# Altium integrated library Microchip PIC16 Part 1.IntLib: 1800 symbols (part 59 of 93)
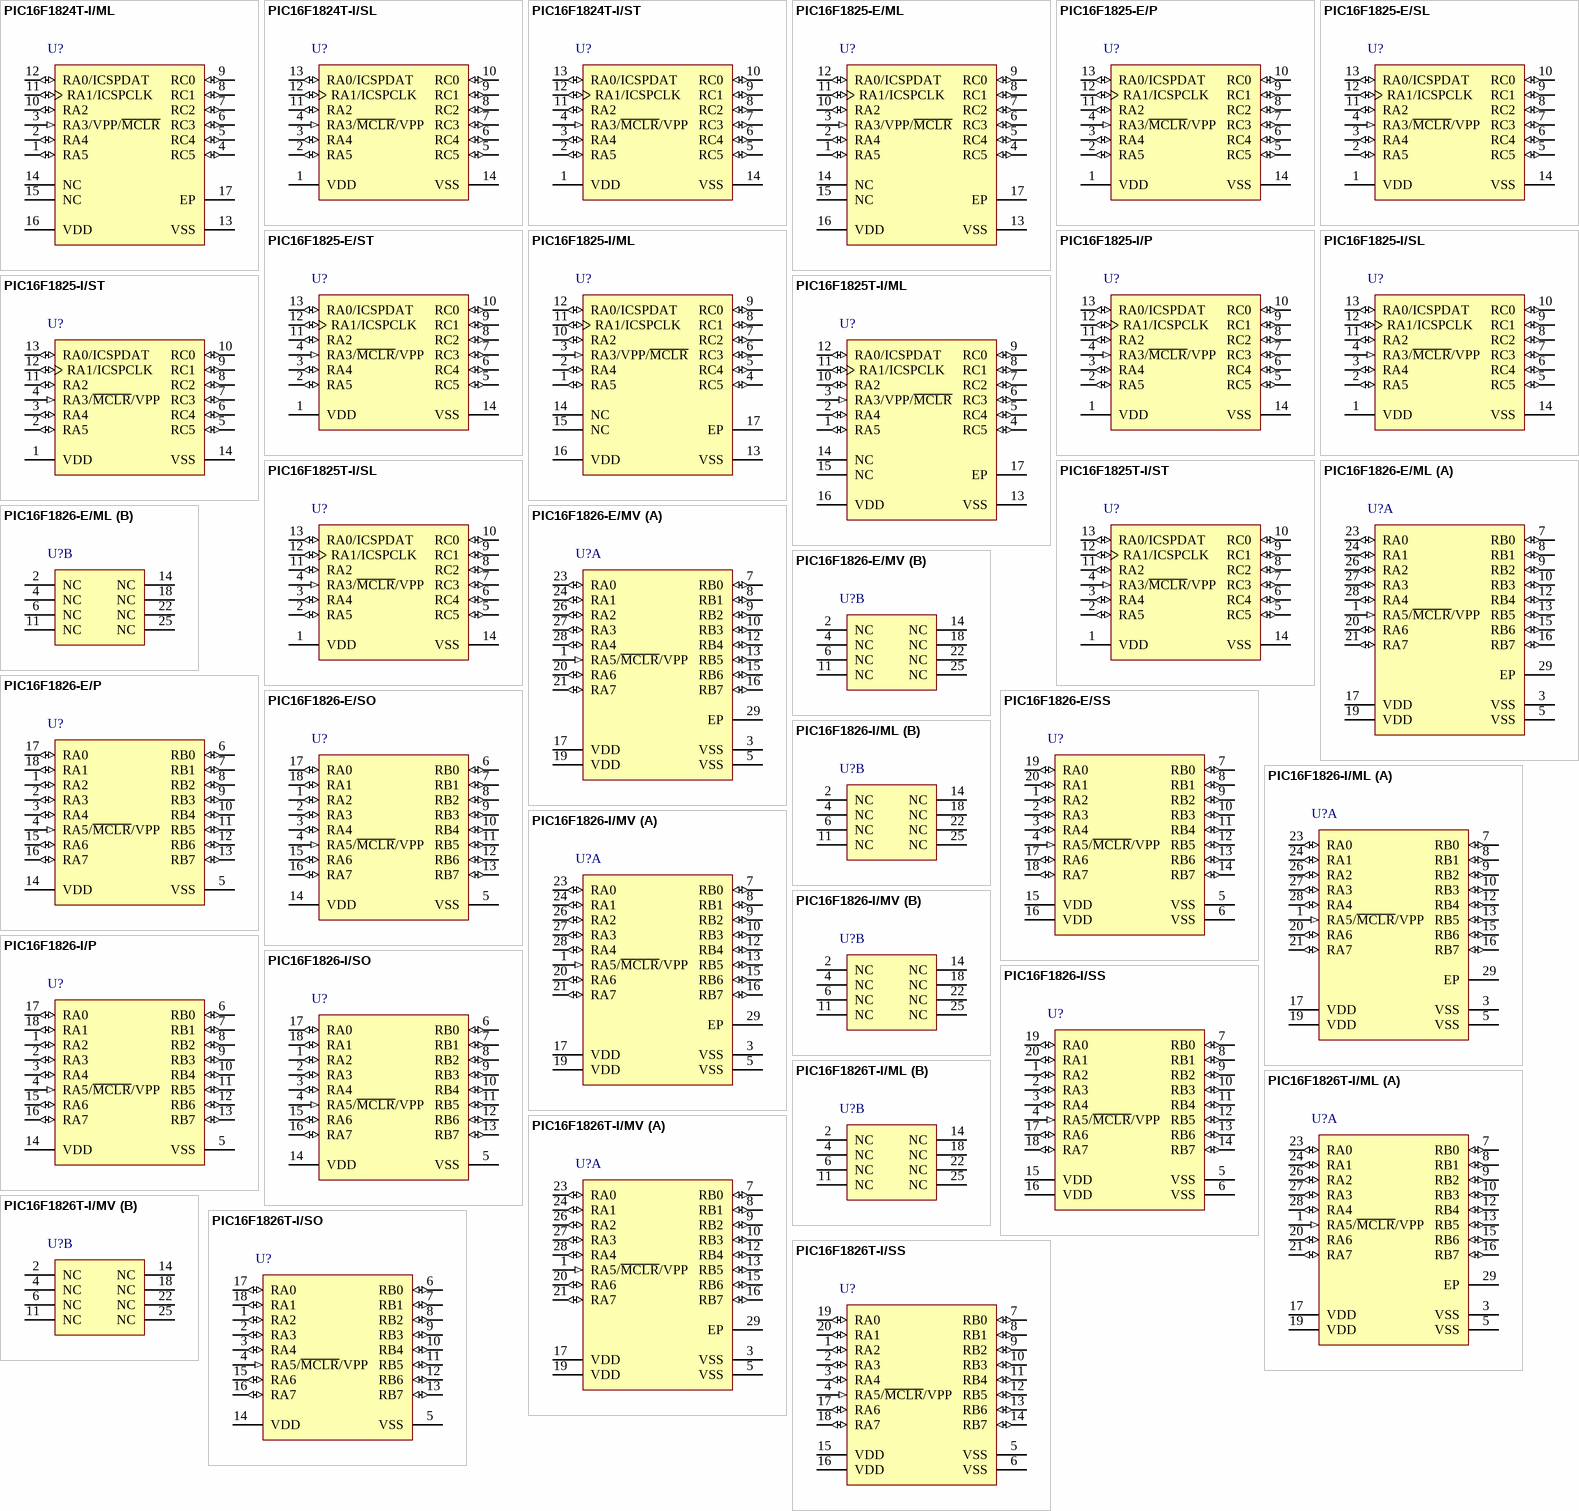
[diagram p157: symbols PIC16F1824T-I/ML to PIC16F1826T-I/SS]

## PIC16F1825-I/ST
designator U?
Flash Microcontroller with XLP Technology, 32 MHz, 11 I/O, -40 to 85 degC, 14-pin TSSOP (ST14), Tube; Manufacturer: Microchip; PartNumber: PIC16F1825-I/ST; # of A/D Channels: 8; Digital Communication: 1 -A/E/USART, 1 -MSSP(SPI/I2C); EEPROM Data Memory (bytes): 256; I/O Pins: 11; Internal Oscillator: 32 MHz, 31 kHz; Max. CPU Speed MHz: 32; Operation Voltage Range: 1.8V - 5.5V; Program Memory KBytes: 14; RAM: 1024; Timers: 4 - 8-bit, 1 - 16-bit; DatasheetVersion: Rev. C; PackageVersion: C04-087C, 12/2012; PackageReference: TSSOP-ST14; PackageDescription: 14-Lead Plastic Thin Shrink Small Outline, 5 x 4.4 mm Body, 0.65 mm Pitch; Supplier 1: Digi-Key; Supplier Part Number 1: PIC16F1825-I/ST-ND; Supplier 2: Farnell; Supplier Part Number 2: 1841449; Supplier 3: Newark; Supplier Part Number 3: 82R4373; Supplier 4: Mouser; Supplier Part Number 4: 579-PIC16F1825-I/ST; Memory Type: Flash; Packing: TUBE; Program Memory KWords: 8; RoHS: TRUE; Mounting Technology: Surface Mount; ComponentLink1Description: Datasheet; ComponentLink1URL: http://ww1.microchip.com/downloads/en/DeviceDoc/41440C.pdf; ComponentLink2Description: Package Specification; ComponentLink2URL: http://www.microchip.com/stellent/groups/techpub_sg/documents/packagingspec/en012702.pdf; ComponentLink3Description: URL Link1; ComponentLink3URL: Product URL:http://www.microchip.com/datasheet/PIC16F1825
footprint MCHP-TSSOP-ST14_N (SOP, 14-Leads, Body 5x4.4mm, Pitch 0.65mm, IPC Medium Density)
footprint MCHP-TSSOP-ST14_L (SOP, 14-Leads, Body 5x4.4mm, Pitch 0.65mm, IPC High Density)
footprint MCHP-TSSOP-ST14_M (SOP, 14-Leads, Body 5x4.4mm, Pitch 0.65mm, IPC Low Density)
pins: 1 VDD (power) "Positive supply", 2 RA5 (io), 3 RA4 (io), 4 RA3/~{MCLR}/VPP (in), 5 RC5 (io), 6 RC4 (io), 7 RC3 (io), 8 RC2 (io), 9 RC1 (io), 10 RC0 (io), 11 RA2 (io), 12 RA1/ICSPCLK (io), 13 RA0/ICSPDAT (io), 14 VSS (power) "Ground reference."

## PIC16F1825T-I/ML
designator U?
Flash Microcontroller with XLP Technology, 32 MHz, 11 I/O, -40 to 85 degC, 16-pin QFN (ML16), Tape and Reel; Manufacturer: Microchip; PartNumber: PIC16F1825T-I/ML; # of A/D Channels: 8; Digital Communication: 1 -A/E/USART, 1 -MSSP(SPI/I2C); EEPROM Data Memory (bytes): 256; I/O Pins: 11; Internal Oscillator: 32 MHz, 31 kHz; Max. CPU Speed MHz: 32; Operation Voltage Range: 1.8V - 5.5V; Packing: T/R; Program Memory KBytes: 14; RAM: 1024; Timers: 4 - 8-bit, 1 - 16-bit; DatasheetVersion: Rev. C; PackageVersion: C04-127B, 04/2013; PackageReference: QFN-ML16; PackageDescription: 16-Lead Plastic Quad Flat No Lead Package, Body 4 x 4 mm, Pitch 0.65 mm; Supplier 1: Digi-Key; Supplier Part Number 1: PIC16F1825T-I/ML-ND; Supplier 2: Newark; Supplier Part Number 2: 82R4374; Supplier 3: Mouser; Supplier Part Number 3: 579-PIC16F1825T-I/ML; Memory Type: Flash; Program Memory KWords: 8; RoHS: TRUE; Mounting Technology: Surface Mount; ComponentLink1Description: Datasheet; ComponentLink1URL: http://ww1.microchip.com/downloads/en/DeviceDoc/41440C.pdf; ComponentLink2Description: Package Specification; ComponentLink2URL: http://www.microchip.com/stellent/groups/techpub_sg/documents/packagingspec/en012702.pdf; ComponentLink3Description: URL Link1; ComponentLink3URL: Product URL:http://www.microchip.com/datasheet/PIC16F1825
footprint MCHP-QFN-ML16_N (QFN, 16-Leads, Body 4x4mm, Pitch 0.65mm, Thermal Pad 2.65x2.65mm, IPC Medium Density)
footprint MCHP-QFN-ML16_L (QFN, 16-Leads, Body 4x4mm, Pitch 0.65mm, Thermal Pad 2.65x2.65mm, IPC High Density)
footprint MCHP-QFN-ML16_M (QFN, 16-Leads, Body 4x4mm, Pitch 0.65mm, Thermal Pad 2.65x2.65mm, IPC Low Density)
pins: 1 RA5 (io), 2 RA4 (io), 3 RA3/VPP/~{MCLR} (in), 4 RC5 (io), 5 RC4 (io), 6 RC3 (io), 7 RC2 (io), 8 RC1 (io), 9 RC0 (io), 10 RA2 (io), 11 RA1/ICSPCLK (io), 12 RA0/ICSPDAT (io), 13 VSS (power) "Ground reference.", 14 NC, 15 NC, 16 VDD (power) "Positive supply.", 17 EP

## PIC16F1825T-I/SL
designator U?
Flash Microcontroller with XLP Technology, 32 MHz, 11 I/O, -40 to 85 degC, 14-pin SOIC (SL14), Tape and Reel; Manufacturer: Microchip; PartNumber: PIC16F1825T-I/SL; # of A/D Channels: 8; Digital Communication: 1 -A/E/USART, 1 -MSSP(SPI/I2C); EEPROM Data Memory (bytes): 256; I/O Pins: 11; Internal Oscillator: 32 MHz, 31 kHz; Max. CPU Speed MHz: 32; Operation Voltage Range: 1.8V - 5.5V; Packing: T/R; Program Memory KBytes: 14; RAM: 1024; Timers: 4 - 8-bit, 1 - 16-bit; DatasheetVersion: Rev. C; PackageVersion: C04-065C, 12/2012; PackageReference: SOIC-SL14; PackageDescription: 14-Lead Plastic Small Outline, 8.65 x 3.9 mm Body, 1.27 mm Pitch; Supplier 1: Digi-Key; Supplier Part Number 1: PIC16F1825T-I/SL-ND; Supplier 2: Mouser; Supplier Part Number 2: 579-PIC16F1825T-I/SL; Memory Type: Flash; Program Memory KWords: 8; RoHS: TRUE; Mounting Technology: Surface Mount; ComponentLink1Description: Datasheet; ComponentLink1URL: http://ww1.microchip.com/downloads/en/DeviceDoc/41440C.pdf; ComponentLink2Description: Package Specification; ComponentLink2URL: http://www.microchip.com/stellent/groups/techpub_sg/documents/packagingspec/en012702.pdf; ComponentLink3Description: URL Link1; ComponentLink3URL: Product URL:http://www.microchip.com/datasheet/PIC16F1825
footprint MCHP-SOIC-SL14_N (SOIC, 14-Leads, Body 8.65x3.9mm, Pitch 1.27mm, IPC Medium Density)
footprint MCHP-SOIC-SL14_L (SOIC, 14-Leads, Body 8.65x3.9mm, Pitch 1.27mm, IPC High Density)
footprint MCHP-SOIC-SL14_M (SOIC, 14-Leads, Body 8.65x3.9mm, Pitch 1.27mm, IPC Low Density)
pins: 1 VDD (power) "Positive supply", 2 RA5 (io), 3 RA4 (io), 4 RA3/~{MCLR}/VPP (in), 5 RC5 (io), 6 RC4 (io), 7 RC3 (io), 8 RC2 (io), 9 RC1 (io), 10 RC0 (io), 11 RA2 (io), 12 RA1/ICSPCLK (io), 13 RA0/ICSPDAT (io), 14 VSS (power) "Ground reference."

## PIC16F1825T-I/ST
designator U?
Flash Microcontroller with XLP Technology, 32 MHz, 11 I/O, -40 to 85 degC, 14-pin TSSOP (ST14), Tape and Reel; Manufacturer: Microchip; PartNumber: PIC16F1825T-I/ST; # of A/D Channels: 8; Digital Communication: 1 -A/E/USART, 1 -MSSP(SPI/I2C); EEPROM Data Memory (bytes): 256; I/O Pins: 11; Internal Oscillator: 32 MHz, 31 kHz; Max. CPU Speed MHz: 32; Operation Voltage Range: 1.8V - 5.5V; Packing: T/R; Program Memory KBytes: 14; RAM: 1024; Timers: 4 - 8-bit, 1 - 16-bit; DatasheetVersion: Rev. C; PackageVersion: C04-087C, 12/2012; PackageReference: TSSOP-ST14; PackageDescription: 14-Lead Plastic Thin Shrink Small Outline, 5 x 4.4 mm Body, 0.65 mm Pitch; Supplier 1: Digi-Key; Supplier Part Number 1: PIC16F1825T-I/ST-ND; Supplier 2: Newark; Supplier Part Number 2: 82R4376; Supplier 3: Mouser; Supplier Part Number 3: 579-PIC16F1825T-I/ST; Memory Type: Flash; Program Memory KWords: 8; RoHS: TRUE; Mounting Technology: Surface Mount; ComponentLink1Description: Datasheet; ComponentLink1URL: http://ww1.microchip.com/downloads/en/DeviceDoc/41440C.pdf; ComponentLink2Description: Package Specification; ComponentLink2URL: http://www.microchip.com/stellent/groups/techpub_sg/documents/packagingspec/en012702.pdf; ComponentLink3Description: URL Link1; ComponentLink3URL: Product URL:http://www.microchip.com/datasheet/PIC16F1825
footprint MCHP-TSSOP-ST14_N (SOP, 14-Leads, Body 5x4.4mm, Pitch 0.65mm, IPC Medium Density)
footprint MCHP-TSSOP-ST14_L (SOP, 14-Leads, Body 5x4.4mm, Pitch 0.65mm, IPC High Density)
footprint MCHP-TSSOP-ST14_M (SOP, 14-Leads, Body 5x4.4mm, Pitch 0.65mm, IPC Low Density)
pins: 1 VDD (power) "Positive supply", 2 RA5 (io), 3 RA4 (io), 4 RA3/~{MCLR}/VPP (in), 5 RC5 (io), 6 RC4 (io), 7 RC3 (io), 8 RC2 (io), 9 RC1 (io), 10 RC0 (io), 11 RA2 (io), 12 RA1/ICSPCLK (io), 13 RA0/ICSPDAT (io), 14 VSS (power) "Ground reference."

## PIC16F1826-E/ML
designator U?
Flash Microcontroller with nanoWatt XLP Technology, 32 MHz, 15 I/O, -40 to 125 degC, 28-pin QFN (ML28), Tube; Manufacturer: Microchip; PartNumber: PIC16F1826-E/ML; # of A/D Channels: 12; Digital Communication: 1 -A/E/USART, 1 -MSSP(SPI/I2C); EEPROM Data Memory (bytes): 256; I/O Pins: 15; Internal Oscillator: 32 MHz, 31 kHz; Max. CPU Speed MHz: 32; Operation Voltage Range: 1.8V - 5.5V; Program Memory KBytes: 3.5; Program Memory KWords: 2; Timers: 2 - 8-bit, 1 - 16-bit; DatasheetVersion: Rev. D; PackageVersion: C04-105C, 12/2012; PackageReference: QFN-ML28; PackageDescription: 28-Lead Plastic Quad Flat, 6 x 6 mm Body, 0.65 mm Pitch; Supplier 1: Digi-Key; Supplier Part Number 1: PIC16F1826-E/ML-ND; Supplier 2: Mouser; Supplier Part Number 2: 579-PIC16F1826-E/ML; Memory Type: Flash; Packing: TUBE; RAM: 256; RoHS: TRUE; Mounting Technology: Surface Mount; ComponentLink1Description: Datasheet; ComponentLink1URL: http://ww1.microchip.com/downloads/en/DeviceDoc/41391D.pdf; ComponentLink2Description: Package Specification; ComponentLink2URL: http://www.microchip.com/stellent/groups/techpub_sg/documents/packagingspec/en012702.pdf; ComponentLink3Description: URL Link1; ComponentLink3URL: Product URL:http://www.microchip.com/datasheet/PIC16F1826
footprint MCHP-QFN-ML28_N (QFN, 28-Leads, Body 6x6mm, Pitch 0.65mm, Thermal Pad 3.7x3.7mm, IPC Medium Density)
footprint MCHP-QFN-ML28_L (QFN, 28-Leads, Body 6x6mm, Pitch 0.65mm, Thermal Pad 3.7x3.7mm, IPC High Density)
footprint MCHP-QFN-ML28_M (QFN, 28-Leads, Body 6x6mm, Pitch 0.65mm, Thermal Pad 3.7x3.7mm, IPC Low Density)
part A pins: 1 RA5/~{MCLR}/VPP (in), 3 VSS (power) "Ground reference", 5 VSS (power) "Ground reference", 7 RB0 (io), 8 RB1 (io), 9 RB2 (io), 10 RB3 (io), 12 RB4 (io), 13 RB5 (io), 15 RB6 (io), 16 RB7 (io), 17 VDD (power) "Positive supply", 19 VDD (power) "Positive supply", 20 RA6 (io), 21 RA7 (io), 23 RA0 (io), 24 RA1 (io), 26 RA2 (io), 27 RA3 (io), 28 RA4 (io), 29 EP
part B pins: 2 NC, 4 NC, 6 NC, 11 NC, 14 NC, 18 NC, 22 NC, 25 NC

## PIC16F1826-E/MV
designator U?
Flash Microcontroller with nanoWatt XLP Technology, 32 MHz, 15 I/O, -40 to 125 degC, 28-pin UQFN (MV28), Tube; Manufacturer: Microchip; PartNumber: PIC16F1826-E/MV; # of A/D Channels: 12; Digital Communication: 1 -A/E/USART, 1 -MSSP(SPI/I2C); EEPROM Data Memory (bytes): 256; I/O Pins: 15; Internal Oscillator: 32 MHz, 31 kHz; Max. CPU Speed MHz: 32; Operation Voltage Range: 1.8V - 5.5V; Program Memory KBytes: 3.5; Program Memory KWords: 2; Timers: 2 - 8-bit, 1 - 16-bit; DatasheetVersion: Rev. D; PackageVersion: C04-152A, 04/2013; PackageReference: UQFN-MV28; PackageDescription: 28-Lead Plastic Ultra Thin Quad Flat, Body 4 x 4 mm, Pitch 0.4 mm; Supplier 1: Digi-Key; Supplier Part Number 1: PIC16F1826-E/MV-ND; Supplier 2: Mouser; Supplier Part Number 2: 579-PIC16F1826-E/MV; Memory Type: Flash; Packing: TUBE; RAM: 256; RoHS: TRUE; Mounting Technology: Surface Mount; ComponentLink1Description: Datasheet; ComponentLink1URL: http://ww1.microchip.com/downloads/en/DeviceDoc/41391D.pdf; ComponentLink2Description: Package Specification; ComponentLink2URL: http://www.microchip.com/stellent/groups/techpub_sg/documents/packagingspec/en012702.pdf; ComponentLink3Description: URL Link1; ComponentLink3URL: Product URL:http://www.microchip.com/datasheet/PIC16F1826
footprint MCHP-UQFN-MV28_N (QFN, 28-Leads, Body 4x4mm, Pitch 0.4mm, Thermal Pad 2.65x2.65mm, IPC Medium Density)
footprint MCHP-UQFN-MV28_L (QFN, 28-Leads, Body 4x4mm, Pitch 0.4mm, Thermal Pad 2.65x2.65mm, IPC High Density)
footprint MCHP-UQFN-MV28_M (QFN, 28-Leads, Body 4x4mm, Pitch 0.4mm, Thermal Pad 2.65x2.65mm, IPC Low Density)
part A pins: 1 RA5/~{MCLR}/VPP (in), 3 VSS (power) "Ground reference", 5 VSS (power) "Ground reference", 7 RB0 (io), 8 RB1 (io), 9 RB2 (io), 10 RB3 (io), 12 RB4 (io), 13 RB5 (io), 15 RB6 (io), 16 RB7 (io), 17 VDD (power) "Positive supply", 19 VDD (power) "Positive supply", 20 RA6 (io), 21 RA7 (io), 23 RA0 (io), 24 RA1 (io), 26 RA2 (io), 27 RA3 (io), 28 RA4 (io), 29 EP
part B pins: 2 NC, 4 NC, 6 NC, 11 NC, 14 NC, 18 NC, 22 NC, 25 NC

## PIC16F1826-E/P
designator U?
Flash Microcontroller with nanoWatt XLP Technology, 32 MHz, 15 I/O, -40 to 125 degC, 18-pin PDIP (P18), Tube; Manufacturer: Microchip; PartNumber: PIC16F1826-E/P; # of A/D Channels: 12; Digital Communication: 1 -A/E/USART, 1 -MSSP(SPI/I2C); EEPROM Data Memory (bytes): 256; I/O Pins: 15; Internal Oscillator: 32 MHz, 31 kHz; Max. CPU Speed MHz: 32; Operation Voltage Range: 1.8V - 5.5V; Program Memory KBytes: 3.5; Program Memory KWords: 2; Timers: 2 - 8-bit, 1 - 16-bit; DatasheetVersion: Rev. D; PackageVersion: C04-007B, 12/2012; PackageReference: PDIP-P18; PackageDescription: 18-Lead Plastic Dual In-Line, Row Spacing 7.62 mm, 22.86 x 6.6 mm Body, 2.54 mm Pitch; Supplier 1: Digi-Key; Supplier Part Number 1: PIC16F1826-E/P-ND; Supplier 2: Farnell; Supplier Part Number 2: 1801210; Supplier 3: Newark; Supplier Part Number 3: 24R7059; Supplier 4: Mouser; Supplier Part Number 4: 579-PIC16F1826-E/P; Memory Type: Flash; Packing: TUBE; RAM: 256; RoHS: TRUE; Mounting Technology: Through Hole; ComponentLink1Description: Datasheet; ComponentLink1URL: http://ww1.microchip.com/downloads/en/DeviceDoc/41391D.pdf; ComponentLink2Description: Package Specification; ComponentLink2URL: http://www.microchip.com/stellent/groups/techpub_sg/documents/packagingspec/en012702.pdf; ComponentLink3Description: URL Link1; ComponentLink3URL: Product URL:http://www.microchip.com/datasheet/PIC16F1826
footprint MCHP-PDIP-P18 (DIP, 18-Leads, Body 22.83x6.604mm, Pitch 2.54mm)
pins: 1 RA2 (io), 2 RA3 (io), 3 RA4 (io), 4 RA5/~{MCLR}/VPP (in), 5 VSS (power) "Ground reference.", 6 RB0 (io), 7 RB1 (io), 8 RB2 (io), 9 RB3 (io), 10 RB4 (io), 11 RB5 (io), 12 RB6 (io), 13 RB7 (io), 14 VDD (power) "Positive supply.", 15 RA6 (io), 16 RA7 (io), 17 RA0 (io), 18 RA1 (io)

## PIC16F1826-E/SO
designator U?
Flash Microcontroller with nanoWatt XLP Technology, 32 MHz, 15 I/O, -40 to 125 degC, 18-pin SOIC (SO18), Tube; Manufacturer: Microchip; PartNumber: PIC16F1826-E/SO; # of A/D Channels: 12; Digital Communication: 1 -A/E/USART, 1 -MSSP(SPI/I2C); EEPROM Data Memory (bytes): 256; I/O Pins: 15; Internal Oscillator: 32 MHz, 31 kHz; Max. CPU Speed MHz: 32; Operation Voltage Range: 1.8V - 5.5V; Program Memory KBytes: 3.5; Program Memory KWords: 2; Timers: 2 - 8-bit, 1 - 16-bit; DatasheetVersion: Rev. D; PackageVersion: C04-051C, 12/2012; PackageReference: SOIC-SO18; PackageDescription: 18-Lead Plastic Small Outline, 7.5 x 11.55 mm Body, 1.27 mm Pitch; Supplier 1: Digi-Key; Supplier Part Number 1: PIC16F1826-E/SO-ND; Supplier 2: Mouser; Supplier Part Number 2: 579-PIC16F1826-E/SO; Memory Type: Flash; Packing: TUBE; RAM: 256; RoHS: TRUE; Mounting Technology: Surface Mount; ComponentLink1Description: Datasheet; ComponentLink1URL: http://ww1.microchip.com/downloads/en/DeviceDoc/41391D.pdf; ComponentLink2Description: Package Specification; ComponentLink2URL: http://www.microchip.com/stellent/groups/techpub_sg/documents/packagingspec/en012702.pdf; ComponentLink3Description: URL Link1; ComponentLink3URL: Product URL:http://www.microchip.com/datasheet/PIC16F1826
footprint MCHP-SOIC-SO18_N (SOIC, 18-Leads, Body 11.55x7.5mm, Pitch 1.27mm, IPC Medium Density)
footprint MCHP-SOIC-SO18_L (SOIC, 18-Leads, Body 11.55x7.5mm, Pitch 1.27mm, IPC High Density)
footprint MCHP-SOIC-SO18_M (SOIC, 18-Leads, Body 11.55x7.5mm, Pitch 1.27mm, IPC Low Density)
pins: 1 RA2 (io), 2 RA3 (io), 3 RA4 (io), 4 RA5/~{MCLR}/VPP (in), 5 VSS (power) "Ground reference.", 6 RB0 (io), 7 RB1 (io), 8 RB2 (io), 9 RB3 (io), 10 RB4 (io), 11 RB5 (io), 12 RB6 (io), 13 RB7 (io), 14 VDD (power) "Positive supply.", 15 RA6 (io), 16 RA7 (io), 17 RA0 (io), 18 RA1 (io)

## PIC16F1826-E/SS
designator U?
Flash Microcontroller with nanoWatt XLP Technology, 32 MHz, 15 I/O, -40 to 125 degC, 20-pin SSOP (SS20), Tube; Manufacturer: Microchip; PartNumber: PIC16F1826-E/SS; # of A/D Channels: 12; Digital Communication: 1 -A/E/USART, 1 -MSSP(SPI/I2C); EEPROM Data Memory (bytes): 256; I/O Pins: 15; Internal Oscillator: 32 MHz, 31 kHz; Max. CPU Speed MHz: 32; Operation Voltage Range: 1.8V - 5.5V; Program Memory KBytes: 3.5; Program Memory KWords: 2; Timers: 2 - 8-bit, 1 - 16-bit; DatasheetVersion: Rev. D; PackageVersion: C04-072B, 12/2012; PackageReference: SSOP-SS20; PackageDescription: 20-Lead Plastic Shrink Small Outline, 5.3 x 7.2 mm Body, 0.65 mm Pitch; Supplier 1: Digi-Key; Supplier Part Number 1: PIC16F1826-E/SS-ND; Supplier 2: Mouser; Supplier Part Number 2: 579-PIC16F1826-E/SS; Memory Type: Flash; Packing: TUBE; RAM: 256; RoHS: TRUE; Mounting Technology: Surface Mount; ComponentLink1Description: Datasheet; ComponentLink1URL: http://ww1.microchip.com/downloads/en/DeviceDoc/41391D.pdf; ComponentLink2Description: Package Specification; ComponentLink2URL: http://www.microchip.com/stellent/groups/techpub_sg/documents/packagingspec/en012702.pdf; ComponentLink3Description: URL Link1; ComponentLink3URL: Product URL:http://www.microchip.com/datasheet/PIC16F1826
footprint MCHP-SSOP-SS20_N (SOP, 20-Leads, Body 7.2x5.3mm, Pitch 0.65mm, IPC Medium Density)
footprint MCHP-SSOP-SS20_L (SOP, 20-Leads, Body 7.2x5.3mm, Pitch 0.65mm, IPC High Density)
footprint MCHP-SSOP-SS20_M (SOP, 20-Leads, Body 7.2x5.3mm, Pitch 0.65mm, IPC Low Density)
pins: 1 RA2 (io), 2 RA3 (io), 3 RA4 (io), 4 RA5/~{MCLR}/VPP (in), 5 VSS (power) "Ground reference", 6 VSS (power) "Ground reference", 7 RB0 (io), 8 RB1 (io), 9 RB2 (io), 10 RB3 (io), 11 RB4 (io), 12 RB5 (io), 13 RB6 (io), 14 RB7 (io), 15 VDD (power) "Positive supply", 16 VDD (power) "Positive supply", 17 RA6 (io), 18 RA7 (io), 19 RA0 (io), 20 RA1 (io)

## PIC16F1826-I/ML
designator U?
Flash Microcontroller with nanoWatt XLP Technology, 32 MHz, 15 I/O, -40 to 85 degC, 28-pin QFN (ML28), Tube; Manufacturer: Microchip; PartNumber: PIC16F1826-I/ML; # of A/D Channels: 12; Digital Communication: 1 -A/E/USART, 1 -MSSP(SPI/I2C); EEPROM Data Memory (bytes): 256; I/O Pins: 15; Internal Oscillator: 32 MHz, 31 kHz; Max. CPU Speed MHz: 32; Operation Voltage Range: 1.8V - 5.5V; Program Memory KBytes: 3.5; Program Memory KWords: 2; Timers: 2 - 8-bit, 1 - 16-bit; DatasheetVersion: Rev. D; PackageVersion: C04-105C, 12/2012; PackageReference: QFN-ML28; PackageDescription: 28-Lead Plastic Quad Flat, 6 x 6 mm Body, 0.65 mm Pitch; Supplier 1: Digi-Key; Supplier Part Number 1: PIC16F1826-I/ML-ND; Supplier 2: Farnell; Supplier Part Number 2: 1778439; Supplier 3: Newark; Supplier Part Number 3: 24R7062; Supplier 4: Newark; Supplier Part Number 4: 52R6162; Supplier 5: Mouser; Supplier Part Number 5: 579-PIC16F1826-I/ML; Memory Type: Flash; Packing: TUBE; RAM: 256; RoHS: TRUE; Mounting Technology: Surface Mount; ComponentLink1Description: Datasheet; ComponentLink1URL: http://ww1.microchip.com/downloads/en/DeviceDoc/41391D.pdf; ComponentLink2Description: Package Specification; ComponentLink2URL: http://www.microchip.com/stellent/groups/techpub_sg/documents/packagingspec/en012702.pdf; ComponentLink3Description: URL Link1; ComponentLink3URL: Product URL:http://www.microchip.com/datasheet/PIC16F1826
footprint MCHP-QFN-ML28_N (QFN, 28-Leads, Body 6x6mm, Pitch 0.65mm, Thermal Pad 3.7x3.7mm, IPC Medium Density)
footprint MCHP-QFN-ML28_L (QFN, 28-Leads, Body 6x6mm, Pitch 0.65mm, Thermal Pad 3.7x3.7mm, IPC High Density)
footprint MCHP-QFN-ML28_M (QFN, 28-Leads, Body 6x6mm, Pitch 0.65mm, Thermal Pad 3.7x3.7mm, IPC Low Density)
part A pins: 1 RA5/~{MCLR}/VPP (in), 3 VSS (power) "Ground reference", 5 VSS (power) "Ground reference", 7 RB0 (io), 8 RB1 (io), 9 RB2 (io), 10 RB3 (io), 12 RB4 (io), 13 RB5 (io), 15 RB6 (io), 16 RB7 (io), 17 VDD (power) "Positive supply", 19 VDD (power) "Positive supply", 20 RA6 (io), 21 RA7 (io), 23 RA0 (io), 24 RA1 (io), 26 RA2 (io), 27 RA3 (io), 28 RA4 (io), 29 EP
part B pins: 2 NC, 4 NC, 6 NC, 11 NC, 14 NC, 18 NC, 22 NC, 25 NC

## PIC16F1826-I/MV
designator U?
Flash Microcontroller with nanoWatt XLP Technology, 32 MHz, 15 I/O, -40 to 85 degC, 28-pin UQFN (MV28), Tube; Manufacturer: Microchip; PartNumber: PIC16F1826-I/MV; # of A/D Channels: 12; Digital Communication: 1 -A/E/USART, 1 -MSSP(SPI/I2C); EEPROM Data Memory (bytes): 256; I/O Pins: 15; Internal Oscillator: 32 MHz, 31 kHz; Max. CPU Speed MHz: 32; Operation Voltage Range: 1.8V - 5.5V; Program Memory KBytes: 3.5; Program Memory KWords: 2; Timers: 2 - 8-bit, 1 - 16-bit; DatasheetVersion: Rev. D; PackageVersion: C04-152A, 04/2013; PackageReference: UQFN-MV28; PackageDescription: 28-Lead Plastic Ultra Thin Quad Flat, Body 4 x 4 mm, Pitch 0.4 mm; Supplier 1: Digi-Key; Supplier Part Number 1: PIC16F1826-I/MV-ND; Supplier 2: Farnell; Supplier Part Number 2: 1778441; Supplier 3: Newark; Supplier Part Number 3: 53R0228; Supplier 4: Mouser; Supplier Part Number 4: 579-PIC16F1826-I/MV; Memory Type: Flash; Packing: TUBE; RAM: 256; RoHS: TRUE; Mounting Technology: Surface Mount; ComponentLink1Description: Datasheet; ComponentLink1URL: http://ww1.microchip.com/downloads/en/DeviceDoc/41391D.pdf; ComponentLink2Description: Package Specification; ComponentLink2URL: http://www.microchip.com/stellent/groups/techpub_sg/documents/packagingspec/en012702.pdf; ComponentLink3Description: URL Link1; ComponentLink3URL: Product URL:http://www.microchip.com/datasheet/PIC16F1826
footprint MCHP-UQFN-MV28_N (QFN, 28-Leads, Body 4x4mm, Pitch 0.4mm, Thermal Pad 2.65x2.65mm, IPC Medium Density)
footprint MCHP-UQFN-MV28_L (QFN, 28-Leads, Body 4x4mm, Pitch 0.4mm, Thermal Pad 2.65x2.65mm, IPC High Density)
footprint MCHP-UQFN-MV28_M (QFN, 28-Leads, Body 4x4mm, Pitch 0.4mm, Thermal Pad 2.65x2.65mm, IPC Low Density)
part A pins: 1 RA5/~{MCLR}/VPP (in), 3 VSS (power) "Ground reference", 5 VSS (power) "Ground reference", 7 RB0 (io), 8 RB1 (io), 9 RB2 (io), 10 RB3 (io), 12 RB4 (io), 13 RB5 (io), 15 RB6 (io), 16 RB7 (io), 17 VDD (power) "Positive supply", 19 VDD (power) "Positive supply", 20 RA6 (io), 21 RA7 (io), 23 RA0 (io), 24 RA1 (io), 26 RA2 (io), 27 RA3 (io), 28 RA4 (io), 29 EP
part B pins: 2 NC, 4 NC, 6 NC, 11 NC, 14 NC, 18 NC, 22 NC, 25 NC

## PIC16F1826-I/P
designator U?
Flash Microcontroller with nanoWatt XLP Technology, 32 MHz, 15 I/O, -40 to 85 degC, 18-pin PDIP (P18), Tube; Manufacturer: Microchip; PartNumber: PIC16F1826-I/P; # of A/D Channels: 12; Digital Communication: 1 -A/E/USART, 1 -MSSP(SPI/I2C); EEPROM Data Memory (bytes): 256; I/O Pins: 15; Internal Oscillator: 32 MHz, 31 kHz; Max. CPU Speed MHz: 32; Operation Voltage Range: 1.8V - 5.5V; Program Memory KBytes: 3.5; Program Memory KWords: 2; Timers: 2 - 8-bit, 1 - 16-bit; DatasheetVersion: Rev. D; PackageVersion: C04-007B, 12/2012; PackageReference: PDIP-P18; PackageDescription: 18-Lead Plastic Dual In-Line, Row Spacing 7.62 mm, 22.86 x 6.6 mm Body, 2.54 mm Pitch; Supplier 1: Digi-Key; Supplier Part Number 1: PIC16F1826-I/P-ND; Supplier 2: Farnell; Supplier Part Number 2: 1778442; Supplier 3: Newark; Supplier Part Number 3: 24R7064; Supplier 4: Mouser; Supplier Part Number 4: 579-PIC16F1826-I/P; Memory Type: Flash; Packing: TUBE; RAM: 256; RoHS: TRUE; Mounting Technology: Through Hole; ComponentLink1Description: Datasheet; ComponentLink1URL: http://ww1.microchip.com/downloads/en/DeviceDoc/41391D.pdf; ComponentLink2Description: Package Specification; ComponentLink2URL: http://www.microchip.com/stellent/groups/techpub_sg/documents/packagingspec/en012702.pdf; ComponentLink3Description: URL Link1; ComponentLink3URL: Product URL:http://www.microchip.com/datasheet/PIC16F1826
footprint MCHP-PDIP-P18 (DIP, 18-Leads, Body 22.83x6.604mm, Pitch 2.54mm)
pins: 1 RA2 (io), 2 RA3 (io), 3 RA4 (io), 4 RA5/~{MCLR}/VPP (in), 5 VSS (power) "Ground reference.", 6 RB0 (io), 7 RB1 (io), 8 RB2 (io), 9 RB3 (io), 10 RB4 (io), 11 RB5 (io), 12 RB6 (io), 13 RB7 (io), 14 VDD (power) "Positive supply.", 15 RA6 (io), 16 RA7 (io), 17 RA0 (io), 18 RA1 (io)

## PIC16F1826-I/SO
designator U?
Flash Microcontroller with nanoWatt XLP Technology, 32 MHz, 15 I/O, -40 to 85 degC, 18-pin SOIC (SO18), Tube; Manufacturer: Microchip; PartNumber: PIC16F1826-I/SO; # of A/D Channels: 12; Digital Communication: 1 -A/E/USART, 1 -MSSP(SPI/I2C); EEPROM Data Memory (bytes): 256; I/O Pins: 15; Internal Oscillator: 32 MHz, 31 kHz; Max. CPU Speed MHz: 32; Operation Voltage Range: 1.8V - 5.5V; Program Memory KBytes: 3.5; Program Memory KWords: 2; Timers: 2 - 8-bit, 1 - 16-bit; DatasheetVersion: Rev. D; PackageVersion: C04-051C, 12/2012; PackageReference: SOIC-SO18; PackageDescription: 18-Lead Plastic Small Outline, 7.5 x 11.55 mm Body, 1.27 mm Pitch; Supplier 1: Digi-Key; Supplier Part Number 1: PIC16F1826-I/SO-ND; Supplier 2: Farnell; Supplier Part Number 2: 1778443; Supplier 3: Newark; Supplier Part Number 3: 24R7065; Supplier 4: Mouser; Supplier Part Number 4: 579-PIC16F1826-I/SO; Memory Type: Flash; Packing: TUBE; RAM: 256; RoHS: TRUE; Mounting Technology: Surface Mount; ComponentLink1Description: Datasheet; ComponentLink1URL: http://ww1.microchip.com/downloads/en/DeviceDoc/41391D.pdf; ComponentLink2Description: Package Specification; ComponentLink2URL: http://www.microchip.com/stellent/groups/techpub_sg/documents/packagingspec/en012702.pdf; ComponentLink3Description: URL Link1; ComponentLink3URL: Product URL:http://www.microchip.com/datasheet/PIC16F1826
footprint MCHP-SOIC-SO18_N (SOIC, 18-Leads, Body 11.55x7.5mm, Pitch 1.27mm, IPC Medium Density)
footprint MCHP-SOIC-SO18_L (SOIC, 18-Leads, Body 11.55x7.5mm, Pitch 1.27mm, IPC High Density)
footprint MCHP-SOIC-SO18_M (SOIC, 18-Leads, Body 11.55x7.5mm, Pitch 1.27mm, IPC Low Density)
pins: 1 RA2 (io), 2 RA3 (io), 3 RA4 (io), 4 RA5/~{MCLR}/VPP (in), 5 VSS (power) "Ground reference.", 6 RB0 (io), 7 RB1 (io), 8 RB2 (io), 9 RB3 (io), 10 RB4 (io), 11 RB5 (io), 12 RB6 (io), 13 RB7 (io), 14 VDD (power) "Positive supply.", 15 RA6 (io), 16 RA7 (io), 17 RA0 (io), 18 RA1 (io)

## PIC16F1826-I/SS
designator U?
Flash Microcontroller with nanoWatt XLP Technology, 32 MHz, 15 I/O, -40 to 85 degC, 20-pin SSOP (SS20), Tube; Manufacturer: Microchip; PartNumber: PIC16F1826-I/SS; # of A/D Channels: 12; Digital Communication: 1 -A/E/USART, 1 -MSSP(SPI/I2C); EEPROM Data Memory (bytes): 256; I/O Pins: 15; Internal Oscillator: 32 MHz, 31 kHz; Max. CPU Speed MHz: 32; Operation Voltage Range: 1.8V - 5.5V; Program Memory KBytes: 3.5; Program Memory KWords: 2; Timers: 2 - 8-bit, 1 - 16-bit; DatasheetVersion: Rev. D; PackageVersion: C04-072B, 12/2012; PackageReference: SSOP-SS20; PackageDescription: 20-Lead Plastic Shrink Small Outline, 5.3 x 7.2 mm Body, 0.65 mm Pitch; Supplier 1: Digi-Key; Supplier Part Number 1: PIC16F1826-I/SS-ND; Supplier 2: Farnell; Supplier Part Number 2: 1778445; Supplier 3: Newark; Supplier Part Number 3: 24R7066; Supplier 4: Mouser; Supplier Part Number 4: 579-PIC16F1826-I/SS; Memory Type: Flash; Packing: TUBE; RAM: 256; RoHS: TRUE; Mounting Technology: Surface Mount; ComponentLink1Description: Datasheet; ComponentLink1URL: http://ww1.microchip.com/downloads/en/DeviceDoc/41391D.pdf; ComponentLink2Description: Package Specification; ComponentLink2URL: http://www.microchip.com/stellent/groups/techpub_sg/documents/packagingspec/en012702.pdf; ComponentLink3Description: URL Link1; ComponentLink3URL: Product URL:http://www.microchip.com/datasheet/PIC16F1826
footprint MCHP-SSOP-SS20_N (SOP, 20-Leads, Body 7.2x5.3mm, Pitch 0.65mm, IPC Medium Density)
footprint MCHP-SSOP-SS20_L (SOP, 20-Leads, Body 7.2x5.3mm, Pitch 0.65mm, IPC High Density)
footprint MCHP-SSOP-SS20_M (SOP, 20-Leads, Body 7.2x5.3mm, Pitch 0.65mm, IPC Low Density)
pins: 1 RA2 (io), 2 RA3 (io), 3 RA4 (io), 4 RA5/~{MCLR}/VPP (in), 5 VSS (power) "Ground reference", 6 VSS (power) "Ground reference", 7 RB0 (io), 8 RB1 (io), 9 RB2 (io), 10 RB3 (io), 11 RB4 (io), 12 RB5 (io), 13 RB6 (io), 14 RB7 (io), 15 VDD (power) "Positive supply", 16 VDD (power) "Positive supply", 17 RA6 (io), 18 RA7 (io), 19 RA0 (io), 20 RA1 (io)

## PIC16F1826T-I/ML
designator U?
Flash Microcontroller with nanoWatt XLP Technology, 32 MHz, 15 I/O, -40 to 85 degC, 28-pin QFN (ML28), Tape and Reel; Manufacturer: Microchip; PartNumber: PIC16F1826T-I/ML; # of A/D Channels: 12; Digital Communication: 1 -A/E/USART, 1 -MSSP(SPI/I2C); EEPROM Data Memory (bytes): 256; I/O Pins: 15; Internal Oscillator: 32 MHz, 31 kHz; Max. CPU Speed MHz: 32; Operation Voltage Range: 1.8V - 5.5V; Packing: T/R; Program Memory KBytes: 3.5; Program Memory KWords: 2; Timers: 2 - 8-bit, 1 - 16-bit; DatasheetVersion: Rev. D; PackageVersion: C04-105C, 12/2012; PackageReference: QFN-ML28; PackageDescription: 28-Lead Plastic Quad Flat, 6 x 6 mm Body, 0.65 mm Pitch; Supplier 1: Digi-Key; Supplier Part Number 1: PIC16F1826T-I/ML-ND; Supplier 2: Newark; Supplier Part Number 2: 24R7067; Supplier 3: Mouser; Supplier Part Number 3: 579-PIC16F1826T-I/ML; Memory Type: Flash; RAM: 256; RoHS: TRUE; Mounting Technology: Surface Mount; ComponentLink1Description: Datasheet; ComponentLink1URL: http://ww1.microchip.com/downloads/en/DeviceDoc/41391D.pdf; ComponentLink2Description: Package Specification; ComponentLink2URL: http://www.microchip.com/stellent/groups/techpub_sg/documents/packagingspec/en012702.pdf; ComponentLink3Description: URL Link1; ComponentLink3URL: Product URL:http://www.microchip.com/datasheet/PIC16F1826
footprint MCHP-QFN-ML28_N (QFN, 28-Leads, Body 6x6mm, Pitch 0.65mm, Thermal Pad 3.7x3.7mm, IPC Medium Density)
footprint MCHP-QFN-ML28_L (QFN, 28-Leads, Body 6x6mm, Pitch 0.65mm, Thermal Pad 3.7x3.7mm, IPC High Density)
footprint MCHP-QFN-ML28_M (QFN, 28-Leads, Body 6x6mm, Pitch 0.65mm, Thermal Pad 3.7x3.7mm, IPC Low Density)
part A pins: 1 RA5/~{MCLR}/VPP (in), 3 VSS (power) "Ground reference", 5 VSS (power) "Ground reference", 7 RB0 (io), 8 RB1 (io), 9 RB2 (io), 10 RB3 (io), 12 RB4 (io), 13 RB5 (io), 15 RB6 (io), 16 RB7 (io), 17 VDD (power) "Positive supply", 19 VDD (power) "Positive supply", 20 RA6 (io), 21 RA7 (io), 23 RA0 (io), 24 RA1 (io), 26 RA2 (io), 27 RA3 (io), 28 RA4 (io), 29 EP
part B pins: 2 NC, 4 NC, 6 NC, 11 NC, 14 NC, 18 NC, 22 NC, 25 NC

## PIC16F1826T-I/MV
designator U?
Flash Microcontroller with nanoWatt XLP Technology, 32 MHz, 15 I/O, -40 to 85 degC, 28-pin UQFN (MV28), Tape and Reel; Manufacturer: Microchip; PartNumber: PIC16F1826T-I/MV; # of A/D Channels: 12; Digital Communication: 1 -A/E/USART, 1 -MSSP(SPI/I2C); EEPROM Data Memory (bytes): 256; I/O Pins: 15; Internal Oscillator: 32 MHz, 31 kHz; Max. CPU Speed MHz: 32; Operation Voltage Range: 1.8V - 5.5V; Packing: T/R; Program Memory KBytes: 3.5; Program Memory KWords: 2; Timers: 2 - 8-bit, 1 - 16-bit; DatasheetVersion: Rev. D; PackageVersion: C04-152A, 04/2013; PackageReference: UQFN-MV28; PackageDescription: 28-Lead Plastic Ultra Thin Quad Flat, Body 4 x 4 mm, Pitch 0.4 mm; Supplier 1: Digi-Key; Supplier Part Number 1: PIC16F1826T-I/MV-ND; Supplier 2: Mouser; Supplier Part Number 2: 579-PIC16F1826T-I/MV; Memory Type: Flash; RAM: 256; RoHS: TRUE; Mounting Technology: Surface Mount; ComponentLink1Description: Datasheet; ComponentLink1URL: http://ww1.microchip.com/downloads/en/DeviceDoc/41391D.pdf; ComponentLink2Description: Package Specification; ComponentLink2URL: http://www.microchip.com/stellent/groups/techpub_sg/documents/packagingspec/en012702.pdf; ComponentLink3Description: URL Link1; ComponentLink3URL: Product URL:http://www.microchip.com/datasheet/PIC16F1826
footprint MCHP-UQFN-MV28_N (QFN, 28-Leads, Body 4x4mm, Pitch 0.4mm, Thermal Pad 2.65x2.65mm, IPC Medium Density)
footprint MCHP-UQFN-MV28_L (QFN, 28-Leads, Body 4x4mm, Pitch 0.4mm, Thermal Pad 2.65x2.65mm, IPC High Density)
footprint MCHP-UQFN-MV28_M (QFN, 28-Leads, Body 4x4mm, Pitch 0.4mm, Thermal Pad 2.65x2.65mm, IPC Low Density)
part A pins: 1 RA5/~{MCLR}/VPP (in), 3 VSS (power) "Ground reference", 5 VSS (power) "Ground reference", 7 RB0 (io), 8 RB1 (io), 9 RB2 (io), 10 RB3 (io), 12 RB4 (io), 13 RB5 (io), 15 RB6 (io), 16 RB7 (io), 17 VDD (power) "Positive supply", 19 VDD (power) "Positive supply", 20 RA6 (io), 21 RA7 (io), 23 RA0 (io), 24 RA1 (io), 26 RA2 (io), 27 RA3 (io), 28 RA4 (io), 29 EP
part B pins: 2 NC, 4 NC, 6 NC, 11 NC, 14 NC, 18 NC, 22 NC, 25 NC

## PIC16F1826T-I/SO
designator U?
Flash Microcontroller with nanoWatt XLP Technology, 32 MHz, 15 I/O, -40 to 85 degC, 18-pin SOIC (SO18), Tape and Reel; Manufacturer: Microchip; PartNumber: PIC16F1826T-I/SO; # of A/D Channels: 12; Digital Communication: 1 -A/E/USART, 1 -MSSP(SPI/I2C); EEPROM Data Memory (bytes): 256; I/O Pins: 15; Internal Oscillator: 32 MHz, 31 kHz; Max. CPU Speed MHz: 32; Operation Voltage Range: 1.8V - 5.5V; Packing: T/R; Program Memory KBytes: 3.5; Program Memory KWords: 2; Timers: 2 - 8-bit, 1 - 16-bit; DatasheetVersion: Rev. D; PackageVersion: C04-051C, 12/2012; PackageReference: SOIC-SO18; PackageDescription: 18-Lead Plastic Small Outline, 7.5 x 11.55 mm Body, 1.27 mm Pitch; Supplier 1: Digi-Key; Supplier Part Number 1: PIC16F1826T-I/SO-ND; Supplier 2: Newark; Supplier Part Number 2: 24R7069; Supplier 3: Mouser; Supplier Part Number 3: 579-PIC16F1826T-I/SO; Memory Type: Flash; RAM: 256; RoHS: TRUE; Mounting Technology: Surface Mount; ComponentLink1Description: Datasheet; ComponentLink1URL: http://ww1.microchip.com/downloads/en/DeviceDoc/41391D.pdf; ComponentLink2Description: Package Specification; ComponentLink2URL: http://www.microchip.com/stellent/groups/techpub_sg/documents/packagingspec/en012702.pdf; ComponentLink3Description: URL Link1; ComponentLink3URL: Product URL:http://www.microchip.com/datasheet/PIC16F1826
footprint MCHP-SOIC-SO18_N (SOIC, 18-Leads, Body 11.55x7.5mm, Pitch 1.27mm, IPC Medium Density)
footprint MCHP-SOIC-SO18_L (SOIC, 18-Leads, Body 11.55x7.5mm, Pitch 1.27mm, IPC High Density)
footprint MCHP-SOIC-SO18_M (SOIC, 18-Leads, Body 11.55x7.5mm, Pitch 1.27mm, IPC Low Density)
pins: 1 RA2 (io), 2 RA3 (io), 3 RA4 (io), 4 RA5/~{MCLR}/VPP (in), 5 VSS (power) "Ground reference.", 6 RB0 (io), 7 RB1 (io), 8 RB2 (io), 9 RB3 (io), 10 RB4 (io), 11 RB5 (io), 12 RB6 (io), 13 RB7 (io), 14 VDD (power) "Positive supply.", 15 RA6 (io), 16 RA7 (io), 17 RA0 (io), 18 RA1 (io)

## PIC16F1826T-I/SS
designator U?
Flash Microcontroller with nanoWatt XLP Technology, 32 MHz, 15 I/O, -40 to 85 degC, 20-pin SSOP (SS20), Tape and Reel; Manufacturer: Microchip; PartNumber: PIC16F1826T-I/SS; # of A/D Channels: 12; Digital Communication: 1 -A/E/USART, 1 -MSSP(SPI/I2C); EEPROM Data Memory (bytes): 256; I/O Pins: 15; Internal Oscillator: 32 MHz, 31 kHz; Max. CPU Speed MHz: 32; Operation Voltage Range: 1.8V - 5.5V; Packing: T/R; Program Memory KBytes: 3.5; Program Memory KWords: 2; Timers: 2 - 8-bit, 1 - 16-bit; DatasheetVersion: Rev. D; PackageVersion: C04-072B, 12/2012; PackageReference: SSOP-SS20; PackageDescription: 20-Lead Plastic Shrink Small Outline, 5.3 x 7.2 mm Body, 0.65 mm Pitch; Supplier 1: Digi-Key; Supplier Part Number 1: PIC16F1826T-I/SS-ND; Supplier 2: Mouser; Supplier Part Number 2: 579-PIC16F1826T-I/SS; Memory Type: Flash; RAM: 256; RoHS: TRUE; Mounting Technology: Surface Mount; ComponentLink1Description: Datasheet; ComponentLink1URL: http://ww1.microchip.com/downloads/en/DeviceDoc/41391D.pdf; ComponentLink2Description: Package Specification; ComponentLink2URL: http://www.microchip.com/stellent/groups/techpub_sg/documents/packagingspec/en012702.pdf; ComponentLink3Description: URL Link1; ComponentLink3URL: Product URL:http://www.microchip.com/datasheet/PIC16F1826
footprint MCHP-SSOP-SS20_N (SOP, 20-Leads, Body 7.2x5.3mm, Pitch 0.65mm, IPC Medium Density)
footprint MCHP-SSOP-SS20_L (SOP, 20-Leads, Body 7.2x5.3mm, Pitch 0.65mm, IPC High Density)
footprint MCHP-SSOP-SS20_M (SOP, 20-Leads, Body 7.2x5.3mm, Pitch 0.65mm, IPC Low Density)
pins: 1 RA2 (io), 2 RA3 (io), 3 RA4 (io), 4 RA5/~{MCLR}/VPP (in), 5 VSS (power) "Ground reference", 6 VSS (power) "Ground reference", 7 RB0 (io), 8 RB1 (io), 9 RB2 (io), 10 RB3 (io), 11 RB4 (io), 12 RB5 (io), 13 RB6 (io), 14 RB7 (io), 15 VDD (power) "Positive supply", 16 VDD (power) "Positive supply", 17 RA6 (io), 18 RA7 (io), 19 RA0 (io), 20 RA1 (io)

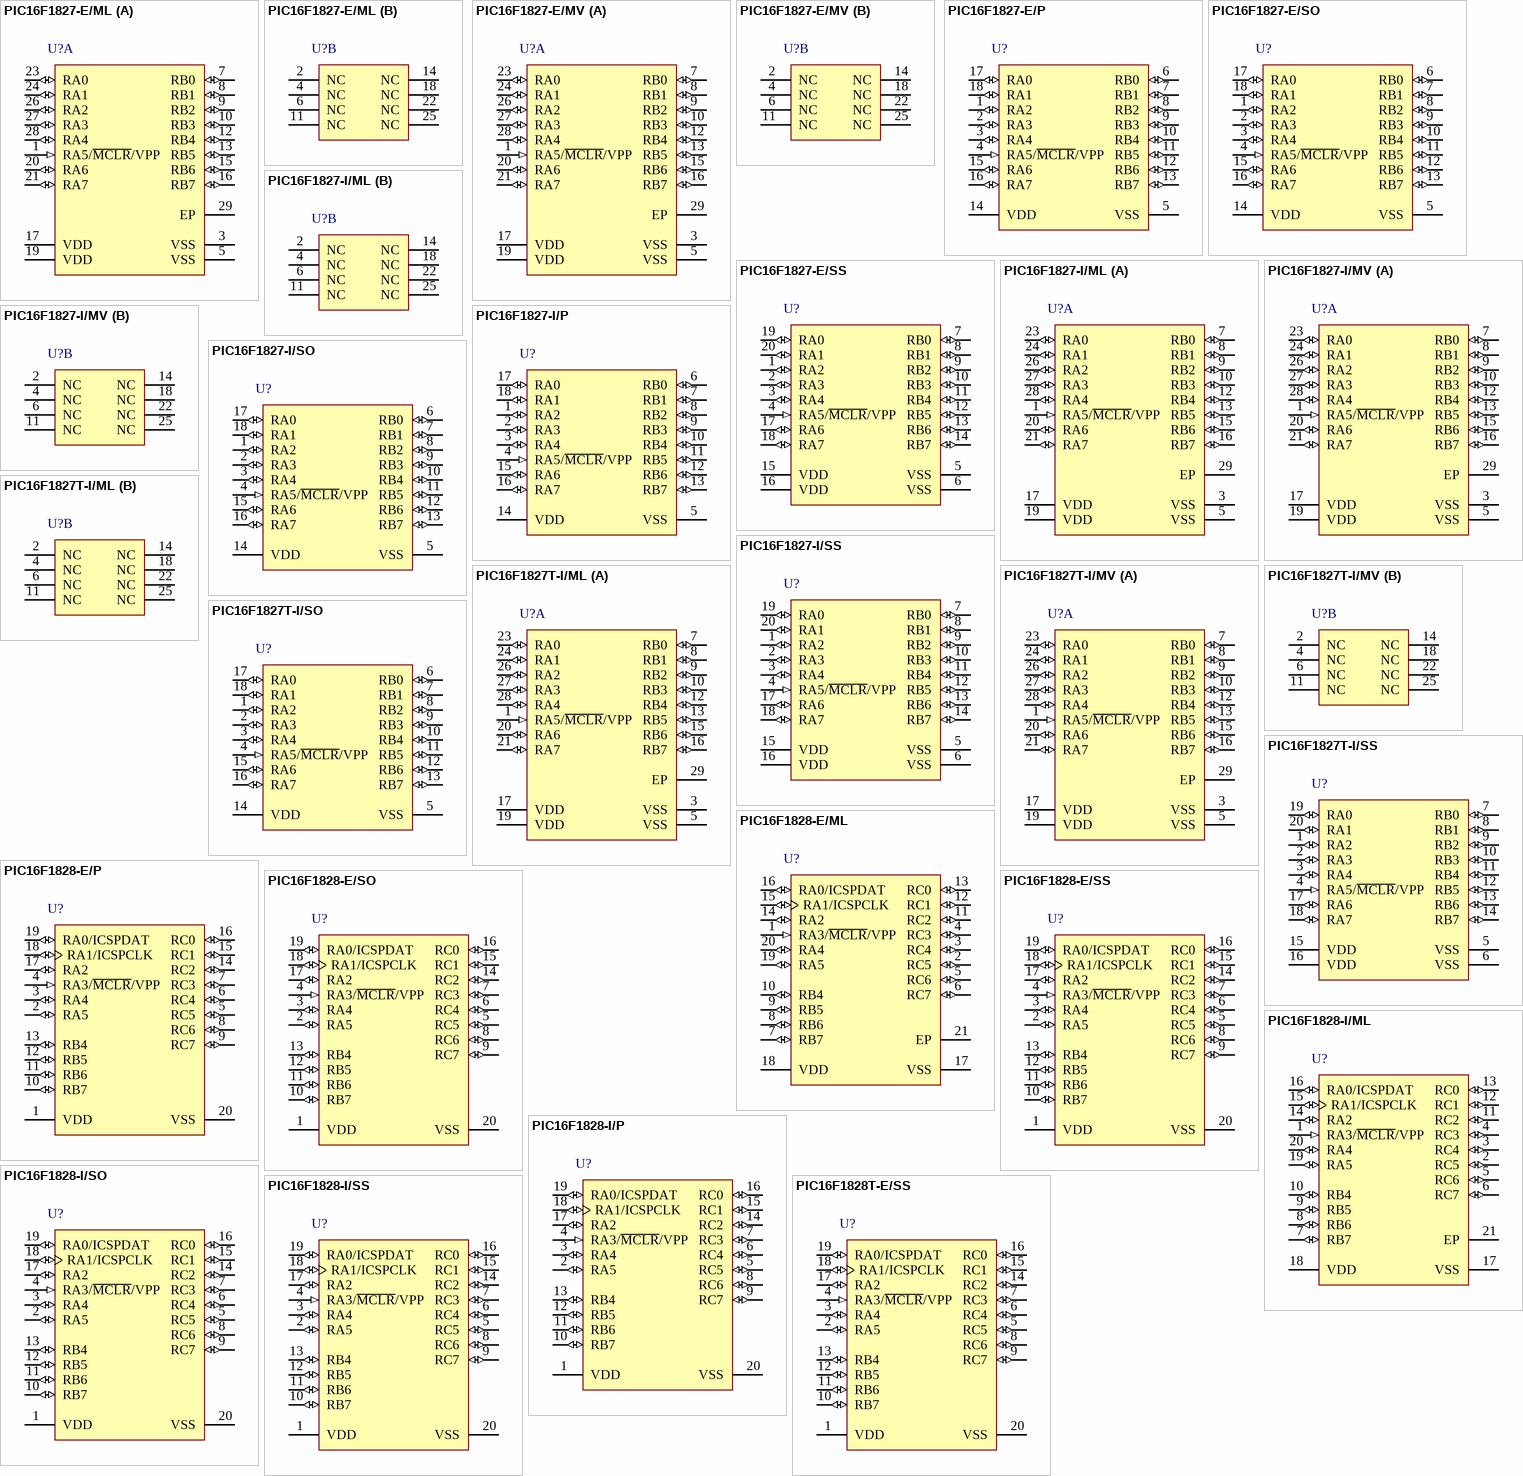
[diagram p60: symbols PIC16F1827-E/ML to PIC16F1828T-E/SS]

## PIC16F1827-E/ML
designator U?
Flash Microcontroller with nanoWatt XLP Technology, 32 MHz, 15 I/O, -40 to 125 degC, 28-pin QFN (ML28), Tube; Manufacturer: Microchip; PartNumber: PIC16F1827-E/ML; # of A/D Channels: 12; Digital Communication: 1 -A/E/USART, 2 -MSSP(SPI/I2C); EEPROM Data Memory (bytes): 256; I/O Pins: 15; Internal Oscillator: 32 MHz, 31 kHz; Max. CPU Speed MHz: 32; Operation Voltage Range: 1.8V - 5.5V; Program Memory KBytes: 7; Program Memory KWords: 4; RAM: 384; Timers: 4 - 8-bit, 1 - 16-bit; DatasheetVersion: Rev. D; PackageVersion: C04-105C, 12/2012; PackageReference: QFN-ML28; PackageDescription: 28-Lead Plastic Quad Flat, 6 x 6 mm Body, 0.65 mm Pitch; Supplier 1: Digi-Key; Supplier Part Number 1: PIC16F1827-E/ML-ND; Supplier 2: Mouser; Supplier Part Number 2: 579-PIC16F1827-E/ML; Memory Type: Flash; Packing: TUBE; RoHS: TRUE; Mounting Technology: Surface Mount; ComponentLink1Description: Datasheet; ComponentLink1URL: http://ww1.microchip.com/downloads/en/DeviceDoc/41391D.pdf; ComponentLink2Description: Package Specification; ComponentLink2URL: http://www.microchip.com/stellent/groups/techpub_sg/documents/packagingspec/en012702.pdf; ComponentLink3Description: URL Link1; ComponentLink3URL: Product URL:http://www.microchip.com/datasheet/PIC16F1827
footprint MCHP-QFN-ML28_N (QFN, 28-Leads, Body 6x6mm, Pitch 0.65mm, Thermal Pad 3.7x3.7mm, IPC Medium Density)
footprint MCHP-QFN-ML28_L (QFN, 28-Leads, Body 6x6mm, Pitch 0.65mm, Thermal Pad 3.7x3.7mm, IPC High Density)
footprint MCHP-QFN-ML28_M (QFN, 28-Leads, Body 6x6mm, Pitch 0.65mm, Thermal Pad 3.7x3.7mm, IPC Low Density)
part A pins: 1 RA5/~{MCLR}/VPP (in), 3 VSS (power) "Ground reference", 5 VSS (power) "Ground reference", 7 RB0 (io), 8 RB1 (io), 9 RB2 (io), 10 RB3 (io), 12 RB4 (io), 13 RB5 (io), 15 RB6 (io), 16 RB7 (io), 17 VDD (power) "Positive supply", 19 VDD (power) "Positive supply", 20 RA6 (io), 21 RA7 (io), 23 RA0 (io), 24 RA1 (io), 26 RA2 (io), 27 RA3 (io), 28 RA4 (io), 29 EP
part B pins: 2 NC, 4 NC, 6 NC, 11 NC, 14 NC, 18 NC, 22 NC, 25 NC

## PIC16F1827-E/MV
designator U?
Flash Microcontroller with nanoWatt XLP Technology, 32 MHz, 15 I/O, -40 to 125 degC, 28-pin UQFN (MV28), Tube; Manufacturer: Microchip; PartNumber: PIC16F1827-E/MV; # of A/D Channels: 12; Digital Communication: 1 -A/E/USART, 2 -MSSP(SPI/I2C); EEPROM Data Memory (bytes): 256; I/O Pins: 15; Internal Oscillator: 32 MHz, 31 kHz; Max. CPU Speed MHz: 32; Operation Voltage Range: 1.8V - 5.5V; Program Memory KBytes: 7; Program Memory KWords: 4; RAM: 384; Timers: 4 - 8-bit, 1 - 16-bit; DatasheetVersion: Rev. D; PackageVersion: C04-152A, 04/2013; PackageReference: UQFN-MV28; PackageDescription: 28-Lead Plastic Ultra Thin Quad Flat, Body 4 x 4 mm, Pitch 0.4 mm; Supplier 1: Digi-Key; Supplier Part Number 1: PIC16F1827-E/MV-ND; Supplier 2: Mouser; Supplier Part Number 2: 579-PIC16F1827-E/MV; Memory Type: Flash; Packing: TUBE; RoHS: TRUE; Mounting Technology: Surface Mount; ComponentLink1Description: Datasheet; ComponentLink1URL: http://ww1.microchip.com/downloads/en/DeviceDoc/41391D.pdf; ComponentLink2Description: Package Specification; ComponentLink2URL: http://www.microchip.com/stellent/groups/techpub_sg/documents/packagingspec/en012702.pdf; ComponentLink3Description: URL Link1; ComponentLink3URL: Product URL:http://www.microchip.com/datasheet/PIC16F1827
footprint MCHP-UQFN-MV28_N (QFN, 28-Leads, Body 4x4mm, Pitch 0.4mm, Thermal Pad 2.65x2.65mm, IPC Medium Density)
footprint MCHP-UQFN-MV28_L (QFN, 28-Leads, Body 4x4mm, Pitch 0.4mm, Thermal Pad 2.65x2.65mm, IPC High Density)
footprint MCHP-UQFN-MV28_M (QFN, 28-Leads, Body 4x4mm, Pitch 0.4mm, Thermal Pad 2.65x2.65mm, IPC Low Density)
part A pins: 1 RA5/~{MCLR}/VPP (in), 3 VSS (power) "Ground reference", 5 VSS (power) "Ground reference", 7 RB0 (io), 8 RB1 (io), 9 RB2 (io), 10 RB3 (io), 12 RB4 (io), 13 RB5 (io), 15 RB6 (io), 16 RB7 (io), 17 VDD (power) "Positive supply", 19 VDD (power) "Positive supply", 20 RA6 (io), 21 RA7 (io), 23 RA0 (io), 24 RA1 (io), 26 RA2 (io), 27 RA3 (io), 28 RA4 (io), 29 EP
part B pins: 2 NC, 4 NC, 6 NC, 11 NC, 14 NC, 18 NC, 22 NC, 25 NC

## PIC16F1827-E/P
designator U?
Flash Microcontroller with nanoWatt XLP Technology, 32 MHz, 15 I/O, -40 to 125 degC, 18-pin PDIP (P18), Tube; Manufacturer: Microchip; PartNumber: PIC16F1827-E/P; # of A/D Channels: 12; Digital Communication: 1 -A/E/USART, 2 -MSSP(SPI/I2C); EEPROM Data Memory (bytes): 256; I/O Pins: 15; Internal Oscillator: 32 MHz, 31 kHz; Max. CPU Speed MHz: 32; Operation Voltage Range: 1.8V - 5.5V; Program Memory KBytes: 7; Program Memory KWords: 4; RAM: 384; Timers: 4 - 8-bit, 1 - 16-bit; DatasheetVersion: Rev. D; PackageVersion: C04-007B, 12/2012; PackageReference: PDIP-P18; PackageDescription: 18-Lead Plastic Dual In-Line, Row Spacing 7.62 mm, 22.86 x 6.6 mm Body, 2.54 mm Pitch; Supplier 1: Digi-Key; Supplier Part Number 1: PIC16F1827-E/P-ND; Supplier 2: Farnell; Supplier Part Number 2: 1801212; Supplier 3: Newark; Supplier Part Number 3: 24R7073; Supplier 4: Mouser; Supplier Part Number 4: 579-PIC16F1827-E/P; Memory Type: Flash; Packing: TUBE; RoHS: TRUE; Mounting Technology: Through Hole; ComponentLink1Description: Datasheet; ComponentLink1URL: http://ww1.microchip.com/downloads/en/DeviceDoc/41391D.pdf; ComponentLink2Description: Package Specification; ComponentLink2URL: http://www.microchip.com/stellent/groups/techpub_sg/documents/packagingspec/en012702.pdf; ComponentLink3Description: URL Link1; ComponentLink3URL: Product URL:http://www.microchip.com/datasheet/PIC16F1827
footprint MCHP-PDIP-P18 (DIP, 18-Leads, Body 22.83x6.604mm, Pitch 2.54mm)
pins: 1 RA2 (io), 2 RA3 (io), 3 RA4 (io), 4 RA5/~{MCLR}/VPP (in), 5 VSS (power) "Ground reference.", 6 RB0 (io), 7 RB1 (io), 8 RB2 (io), 9 RB3 (io), 10 RB4 (io), 11 RB5 (io), 12 RB6 (io), 13 RB7 (io), 14 VDD (power) "Positive supply.", 15 RA6 (io), 16 RA7 (io), 17 RA0 (io), 18 RA1 (io)

## PIC16F1827-E/SO
designator U?
Flash Microcontroller with nanoWatt XLP Technology, 32 MHz, 15 I/O, -40 to 125 degC, 18-pin SOIC (SO18), Tube; Manufacturer: Microchip; PartNumber: PIC16F1827-E/SO; # of A/D Channels: 12; Digital Communication: 1 -A/E/USART, 2 -MSSP(SPI/I2C); EEPROM Data Memory (bytes): 256; I/O Pins: 15; Internal Oscillator: 32 MHz, 31 kHz; Max. CPU Speed MHz: 32; Operation Voltage Range: 1.8V - 5.5V; Program Memory KBytes: 7; Program Memory KWords: 4; RAM: 384; Timers: 4 - 8-bit, 1 - 16-bit; DatasheetVersion: Rev. D; PackageVersion: C04-051C, 12/2012; PackageReference: SOIC-SO18; PackageDescription: 18-Lead Plastic Small Outline, 7.5 x 11.55 mm Body, 1.27 mm Pitch; Supplier 1: Digi-Key; Supplier Part Number 1: PIC16F1827-E/SO-ND; Supplier 2: Newark; Supplier Part Number 2: 24R7074; Supplier 3: Mouser; Supplier Part Number 3: 579-PIC16F1827-E/SO; Memory Type: Flash; Packing: TUBE; RoHS: TRUE; Mounting Technology: Surface Mount; ComponentLink1Description: Datasheet; ComponentLink1URL: http://ww1.microchip.com/downloads/en/DeviceDoc/41391D.pdf; ComponentLink2Description: Package Specification; ComponentLink2URL: http://www.microchip.com/stellent/groups/techpub_sg/documents/packagingspec/en012702.pdf; ComponentLink3Description: URL Link1; ComponentLink3URL: Product URL:http://www.microchip.com/datasheet/PIC16F1827
footprint MCHP-SOIC-SO18_N (SOIC, 18-Leads, Body 11.55x7.5mm, Pitch 1.27mm, IPC Medium Density)
footprint MCHP-SOIC-SO18_L (SOIC, 18-Leads, Body 11.55x7.5mm, Pitch 1.27mm, IPC High Density)
footprint MCHP-SOIC-SO18_M (SOIC, 18-Leads, Body 11.55x7.5mm, Pitch 1.27mm, IPC Low Density)
pins: 1 RA2 (io), 2 RA3 (io), 3 RA4 (io), 4 RA5/~{MCLR}/VPP (in), 5 VSS (power) "Ground reference.", 6 RB0 (io), 7 RB1 (io), 8 RB2 (io), 9 RB3 (io), 10 RB4 (io), 11 RB5 (io), 12 RB6 (io), 13 RB7 (io), 14 VDD (power) "Positive supply.", 15 RA6 (io), 16 RA7 (io), 17 RA0 (io), 18 RA1 (io)

## PIC16F1827-E/SS
designator U?
Flash Microcontroller with nanoWatt XLP Technology, 32 MHz, 15 I/O, -40 to 125 degC, 20-pin SSOP (SS20), Tube; Manufacturer: Microchip; PartNumber: PIC16F1827-E/SS; # of A/D Channels: 12; Digital Communication: 1 -A/E/USART, 2 -MSSP(SPI/I2C); EEPROM Data Memory (bytes): 256; I/O Pins: 15; Internal Oscillator: 32 MHz, 31 kHz; Max. CPU Speed MHz: 32; Operation Voltage Range: 1.8V - 5.5V; Program Memory KBytes: 7; Program Memory KWords: 4; RAM: 384; Timers: 4 - 8-bit, 1 - 16-bit; DatasheetVersion: Rev. D; PackageVersion: C04-072B, 12/2012; PackageReference: SSOP-SS20; PackageDescription: 20-Lead Plastic Shrink Small Outline, 5.3 x 7.2 mm Body, 0.65 mm Pitch; Supplier 1: Digi-Key; Supplier Part Number 1: PIC16F1827-E/SS-ND; Supplier 2: Newark; Supplier Part Number 2: 24R7075; Supplier 3: Mouser; Supplier Part Number 3: 579-PIC16F1827-E/SS; Memory Type: Flash; Packing: TUBE; RoHS: TRUE; Mounting Technology: Surface Mount; ComponentLink1Description: Datasheet; ComponentLink1URL: http://ww1.microchip.com/downloads/en/DeviceDoc/41391D.pdf; ComponentLink2Description: Package Specification; ComponentLink2URL: http://www.microchip.com/stellent/groups/techpub_sg/documents/packagingspec/en012702.pdf; ComponentLink3Description: URL Link1; ComponentLink3URL: Product URL:http://www.microchip.com/datasheet/PIC16F1827
footprint MCHP-SSOP-SS20_N (SOP, 20-Leads, Body 7.2x5.3mm, Pitch 0.65mm, IPC Medium Density)
footprint MCHP-SSOP-SS20_L (SOP, 20-Leads, Body 7.2x5.3mm, Pitch 0.65mm, IPC High Density)
footprint MCHP-SSOP-SS20_M (SOP, 20-Leads, Body 7.2x5.3mm, Pitch 0.65mm, IPC Low Density)
pins: 1 RA2 (io), 2 RA3 (io), 3 RA4 (io), 4 RA5/~{MCLR}/VPP (in), 5 VSS (power) "Ground reference", 6 VSS (power) "Ground reference", 7 RB0 (io), 8 RB1 (io), 9 RB2 (io), 10 RB3 (io), 11 RB4 (io), 12 RB5 (io), 13 RB6 (io), 14 RB7 (io), 15 VDD (power) "Positive supply", 16 VDD (power) "Positive supply", 17 RA6 (io), 18 RA7 (io), 19 RA0 (io), 20 RA1 (io)

## PIC16F1827-I/ML
designator U?
Flash Microcontroller with nanoWatt XLP Technology, 32 MHz, 15 I/O, -40 to 85 degC, 28-pin QFN (ML28), Tube; Manufacturer: Microchip; PartNumber: PIC16F1827-I/ML; # of A/D Channels: 12; Digital Communication: 1 -A/E/USART, 2 -MSSP(SPI/I2C); EEPROM Data Memory (bytes): 256; I/O Pins: 15; Internal Oscillator: 32 MHz, 31 kHz; Max. CPU Speed MHz: 32; Operation Voltage Range: 1.8V - 5.5V; Program Memory KBytes: 7; Program Memory KWords: 4; RAM: 384; Timers: 4 - 8-bit, 1 - 16-bit; DatasheetVersion: Rev. D; PackageVersion: C04-105C, 12/2012; PackageReference: QFN-ML28; PackageDescription: 28-Lead Plastic Quad Flat, 6 x 6 mm Body, 0.65 mm Pitch; Supplier 1: Digi-Key; Supplier Part Number 1: PIC16F1827-I/ML-ND; Supplier 2: Farnell; Supplier Part Number 2: 1778446; Supplier 3: Newark; Supplier Part Number 3: 24R7076; Supplier 4: Mouser; Supplier Part Number 4: 579-PIC16F1827-I/ML; Memory Type: Flash; Packing: TUBE; RoHS: TRUE; Mounting Technology: Surface Mount; ComponentLink1Description: Datasheet; ComponentLink1URL: http://ww1.microchip.com/downloads/en/DeviceDoc/41391D.pdf; ComponentLink2Description: Package Specification; ComponentLink2URL: http://www.microchip.com/stellent/groups/techpub_sg/documents/packagingspec/en012702.pdf; ComponentLink3Description: URL Link1; ComponentLink3URL: Product URL:http://www.microchip.com/datasheet/PIC16F1827
footprint MCHP-QFN-ML28_N (QFN, 28-Leads, Body 6x6mm, Pitch 0.65mm, Thermal Pad 3.7x3.7mm, IPC Medium Density)
footprint MCHP-QFN-ML28_L (QFN, 28-Leads, Body 6x6mm, Pitch 0.65mm, Thermal Pad 3.7x3.7mm, IPC High Density)
footprint MCHP-QFN-ML28_M (QFN, 28-Leads, Body 6x6mm, Pitch 0.65mm, Thermal Pad 3.7x3.7mm, IPC Low Density)
part A pins: 1 RA5/~{MCLR}/VPP (in), 3 VSS (power) "Ground reference", 5 VSS (power) "Ground reference", 7 RB0 (io), 8 RB1 (io), 9 RB2 (io), 10 RB3 (io), 12 RB4 (io), 13 RB5 (io), 15 RB6 (io), 16 RB7 (io), 17 VDD (power) "Positive supply", 19 VDD (power) "Positive supply", 20 RA6 (io), 21 RA7 (io), 23 RA0 (io), 24 RA1 (io), 26 RA2 (io), 27 RA3 (io), 28 RA4 (io), 29 EP
part B pins: 2 NC, 4 NC, 6 NC, 11 NC, 14 NC, 18 NC, 22 NC, 25 NC

## PIC16F1827-I/MV
designator U?
Flash Microcontroller with nanoWatt XLP Technology, 32 MHz, 15 I/O, -40 to 85 degC, 28-pin UQFN (MV28), Tube; Manufacturer: Microchip; PartNumber: PIC16F1827-I/MV; # of A/D Channels: 12; Digital Communication: 1 -A/E/USART, 2 -MSSP(SPI/I2C); EEPROM Data Memory (bytes): 256; I/O Pins: 15; Internal Oscillator: 32 MHz, 31 kHz; Max. CPU Speed MHz: 32; Operation Voltage Range: 1.8V - 5.5V; Program Memory KBytes: 7; Program Memory KWords: 4; RAM: 384; Timers: 4 - 8-bit, 1 - 16-bit; DatasheetVersion: Rev. D; PackageVersion: C04-152A, 04/2013; PackageReference: UQFN-MV28; PackageDescription: 28-Lead Plastic Ultra Thin Quad Flat, Body 4 x 4 mm, Pitch 0.4 mm; Supplier 1: Digi-Key; Supplier Part Number 1: PIC16F1827-I/MV-ND; Supplier 2: Farnell; Supplier Part Number 2: 1778448; Supplier 3: Newark; Supplier Part Number 3: 52R6170; Supplier 4: Mouser; Supplier Part Number 4: 579-PIC16F1827-I/MV; Memory Type: Flash; Packing: TUBE; RoHS: TRUE; Mounting Technology: Surface Mount; ComponentLink1Description: Datasheet; ComponentLink1URL: http://ww1.microchip.com/downloads/en/DeviceDoc/41391D.pdf; ComponentLink2Description: Package Specification; ComponentLink2URL: http://www.microchip.com/stellent/groups/techpub_sg/documents/packagingspec/en012702.pdf; ComponentLink3Description: URL Link1; ComponentLink3URL: Product URL:http://www.microchip.com/datasheet/PIC16F1827
footprint MCHP-UQFN-MV28_N (QFN, 28-Leads, Body 4x4mm, Pitch 0.4mm, Thermal Pad 2.65x2.65mm, IPC Medium Density)
footprint MCHP-UQFN-MV28_L (QFN, 28-Leads, Body 4x4mm, Pitch 0.4mm, Thermal Pad 2.65x2.65mm, IPC High Density)
footprint MCHP-UQFN-MV28_M (QFN, 28-Leads, Body 4x4mm, Pitch 0.4mm, Thermal Pad 2.65x2.65mm, IPC Low Density)
part A pins: 1 RA5/~{MCLR}/VPP (in), 3 VSS (power) "Ground reference", 5 VSS (power) "Ground reference", 7 RB0 (io), 8 RB1 (io), 9 RB2 (io), 10 RB3 (io), 12 RB4 (io), 13 RB5 (io), 15 RB6 (io), 16 RB7 (io), 17 VDD (power) "Positive supply", 19 VDD (power) "Positive supply", 20 RA6 (io), 21 RA7 (io), 23 RA0 (io), 24 RA1 (io), 26 RA2 (io), 27 RA3 (io), 28 RA4 (io), 29 EP
part B pins: 2 NC, 4 NC, 6 NC, 11 NC, 14 NC, 18 NC, 22 NC, 25 NC